# Altium footprint library LORA_ANTENNA.PcbLib: 1 footprints
Each footprint in its own frame and in the unit in brackets; x right, y up, seen from the top. Pads: shape width x height; smd on the part's side, far side on the other; paste and mask are expansions set on the pad; w line width, h text height; cw(c..) or ccw(c..) is an arc to the next point about the centre after c.
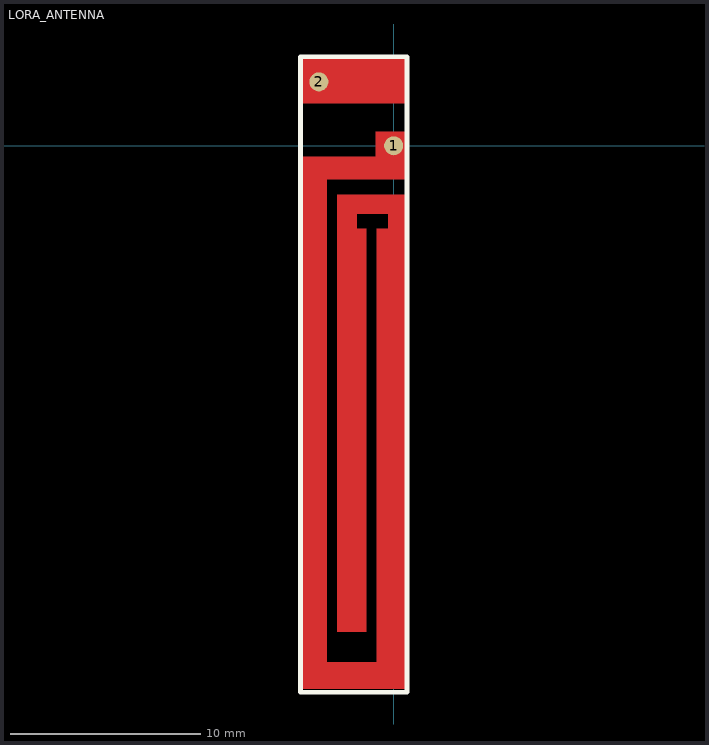
[diagram p0: the footprint, top view; thin cyan lines are the x and y axes]

## LORA_ANTENNA [mm]
pads (2):
  round 1 smd: 1(0,0) 2(-3.933,3.363)
Top Layer:
  region: -4.779,4.734 -4.779,2.234 0.721,2.234 0.721,4.734
  region: -4.779,-0.566 -4.779,-1.766 0.721,-1.766 0.721,-0.566
  region: -0.279,-2.566 -0.279,-4.466 0.721,-4.466 0.721,-2.566
  region: -0.879,-4.366 -0.879,-28.566 0.721,-28.566 0.721,-4.366
  region: 0.721,-28.566 -4.779,-28.566 -4.779,-27.166 0.721,-27.166
  region: -4.779,-0.566 -4.779,-28.566 -3.529,-28.566 -3.529,-0.566
  region: 0.721,0.734 -0.949,0.734 -0.949,-1.766 0.721,-1.766
  region: -2.954,-2.566 -2.954,-3.566 0.721,-3.566 0.721,-2.566
  region: -2.954,-4.366 -2.954,-25.566 -1.454,-25.566 -1.454,-4.366
  region: -2.954,-2.566 -2.954,-4.476 -1.951,-4.476 -1.951,-2.566
Top Overlay:
  lines w0.254: -4.893,-28.741 -4.893,4.688 0.708,4.688 0.708,-28.741 -4.893,-28.741